# Altium footprint library SM_DIODE_BIDIR_SMA.PcbLib: 1 footprints
Each footprint in its own frame and in the unit in brackets; x right, y up, seen from the top. Pads: shape width x height; smd on the part's side, far side on the other; paste and mask are expansions set on the pad; w line width, h text height; cw(c..) or ccw(c..) is an arc to the next point about the centre after c.
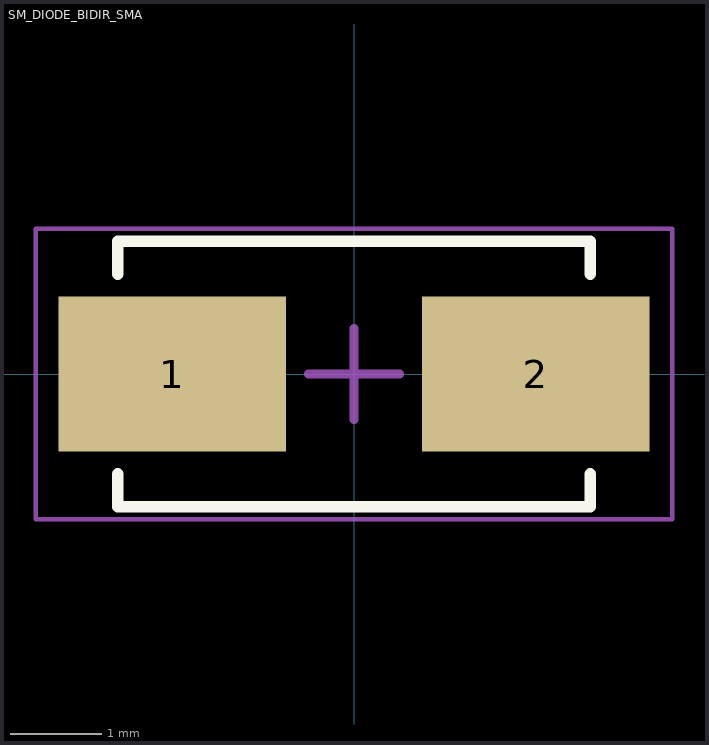
[diagram p0: the footprint, top view; thin cyan lines are the x and y axes]

## SM_DIODE_BIDIR_SMA [mm] "SMA, 2-Leads, Body 4.3x2.605mm, Height 2.3mm"
height 2.3
pads (2):
  rect 2.5x1.7 smd: 1(-2,0) 2(2,0)
Top Overlay:
  lines w0.127: -2.6,-1.1 -2.6,-1.46 2.6,-1.46 2.6,-1.1 ; -2.6,1.1 -2.6,1.46 2.6,1.46 2.6,1.1
Mechanical 15:
  lines w0.05: -3.5,-1.6 3.5,-1.6 3.5,1.6 -3.5,1.6 -3.5,-1.6
  lines w0.1: -0.5,0 0.5,0 ; 0,-0.5 0,0.5
3D body: height 2.4, standoff 0, extent -2.6,-1.46 2.6,1.46